# EAGLE library part BNO055 (library m10k)
Bosch BNO055 9-DOF Inertial Measurement Unit
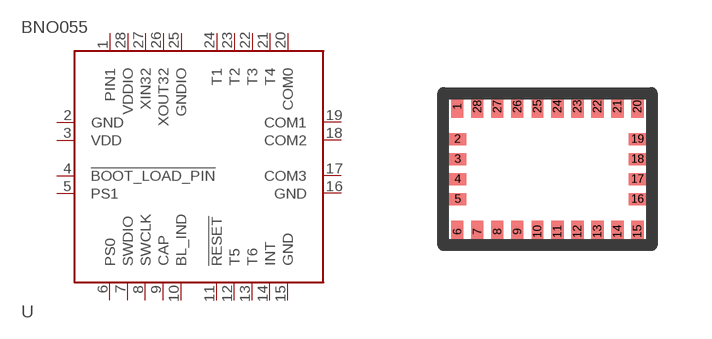
[diagram p1: symbol with the pads of LGA28_BOSCH; footprint LGA28_BOSCH]

Designator prefix U

## BNO055LGA  [LGA28_BOSCH]
1  PIN1  nc
2  GND  pwr
3  VDD  pwr
4  !BOOT_LOAD_PIN  in
5  PS1  in
6  PS0  in
7  SWDIO
8  SWCLK
9  CAP
10  BL_IND  out
11  !RESET
12  T5  nc
13  T6  nc
14  INT  out
15  GND  pwr
16  GND  pwr
17  COM3  in
18  COM2
19  COM1
20  COM0
21  T4  nc
22  T3  nc
23  T2  nc
24  T1  nc
25  GNDIO  pwr
26  XOUT32  out
27  XIN32  in
28  VDDIO  pwr

## Footprint LGA28_BOSCH (pad centres in mm)
Bosch LGA28 5.2x3.8mm package
smd 0.3 x 0.55: 1 -2.25,1.562; 6 -2.25,-1.562; 7 -1.75,-1.562; 8 -1.25,-1.562; 9 -0.75,-1.562; 10 -0.25,-1.562; 11 0.25,-1.562; 12 0.75,-1.562; 13 1.25,-1.562; 14 1.75,-1.562; 15 2.25,-1.562; 20 2.25,1.562; 21 1.75,1.562; 22 1.25,1.562; 23 0.75,1.562; 24 0.25,1.562; 25 -0.25,1.562; 26 -0.75,1.562; 27 -1.25,1.562; 28 -1.75,1.562
smd 0.45 x 0.3: 2 -2.25,0.75; 3 -2.25,0.25; 4 -2.25,-0.25; 5 -2.25,-0.75; 16 2.25,-0.75; 17 2.25,-0.25; 18 2.25,0.25; 19 2.25,0.75